# Altium footprint library 1-1546215-2.PcbLib: 1 footprints
Each footprint in its own frame and in the unit in brackets; x right, y up, seen from the top. Pads: shape width x height; smd on the part's side, far side on the other; paste and mask are expansions set on the pad; w line width, h text height; cw(c..) or ccw(c..) is an arc to the next point about the centre after c.
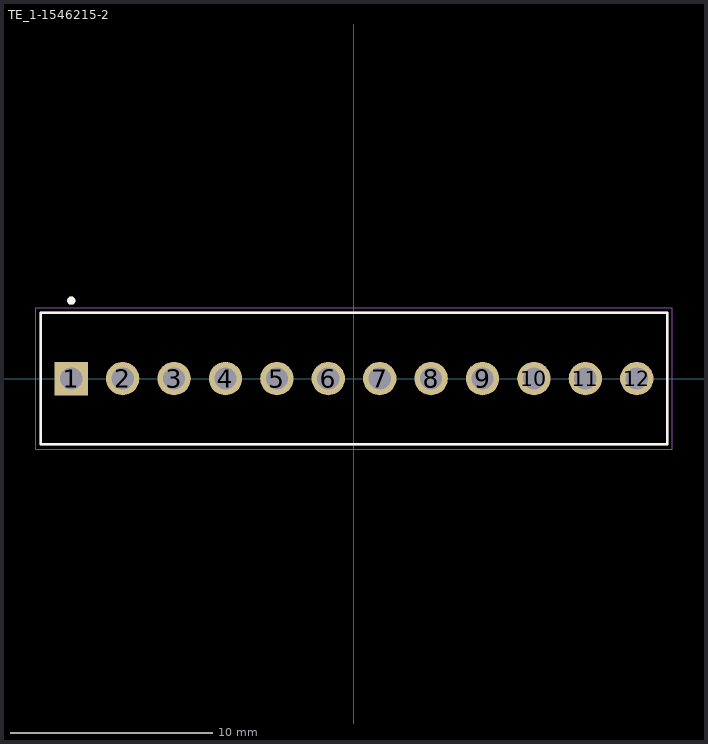
[diagram p0: the footprint, top view; thin cyan lines are the x and y axes]

## TE_1-1546215-2 [mm]
pads (12):
  rect 1.65x1.65 hole 1.1: 1(-13.97,0)
  round 1.65 hole 1.1: 2(-11.43,0) 3(-8.89,0) 4(-6.35,0) 5(-3.81,0) 6(-1.27,0) 7(1.27,0) 8(3.81,0) 9(6.35,0) 10(8.89,0) 11(11.43,0) 12(13.97,0)
Top Overlay:
  circle w0.2: c-13.97,3.85 r0.1
  lines w0.127: -15.47,-3.25 15.47,-3.25 15.47,3.25 -15.47,3.25 -15.47,-3.25
Mechanical 13:
  circle w0.2: c-13.97,3.85 r0.1
  lines w0.127: -15.47,-3.25 15.47,-3.25 15.47,3.25 -15.47,3.25 -15.47,-3.25
Mechanical 15:
  lines w0.05: -15.72,-3.5 15.72,-3.5 15.72,3.5 -15.72,3.5 -15.72,-3.5
3D body "step_temp.STEP": height 10, standoff -3.4, extent -15.47,-3.25 15.47,3.25